# Altium footprint library TACTB-6x6.PcbLib: 1 footprints
Each footprint in its own frame and in the unit in brackets; x right, y up, seen from the top. Pads: shape width x height; smd on the part's side, far side on the other; paste and mask are expansions set on the pad; w line width, h text height; cw(c..) or ccw(c..) is an arc to the next point about the centre after c.
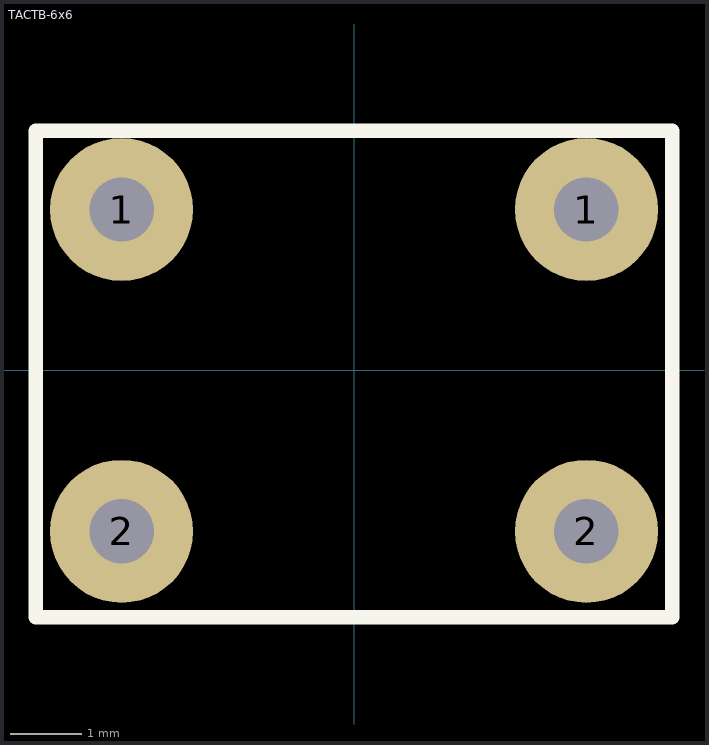
[diagram p0: the footprint, top view; thin cyan lines are the x and y axes]

## TACTB-6x6 [mm]
height 0.9
pads (4):
  round 2 hole 0.9: 1(-3.25,2.25) 1(3.25,2.25) 2(-3.25,-2.25) 2(3.25,-2.25)
Top Overlay:
  lines w0.2: -4.45,-3.45 -4.45,3.35 4.45,3.35 4.45,-3.45 -4.45,-3.45
Top Assembly:
  lines w0.1: -4.45,-3.45 -4.45,3.35 4.45,3.35 4.45,-3.45 -4.45,-3.45
  text "'.Designator'" at -0.95,-0.35 h0.7
3D body "70354857.stp": height 3.1, standoff -4.7, extent -3.85,-3 3.85,3